# Altium schematic symbol library SMDComponents.SchLib: 1 symbol
Pins are listed as number, name and electrical type; pins without a type are passive.

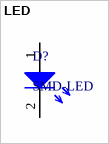
[diagram p0: symbol LED]

## LED
designator D?, comment SMD-LED
Just a generic LED
footprint 0603-LED (0603 LED footprint, thick line on the cathode)
pins: 1, 2